# Altium footprint library Carte Sensor.PcbLib: 2 footprints
Each footprint in its own frame and in the unit in brackets; x right, y up, seen from the top. Pads: shape width x height; smd on the part's side, far side on the other; paste and mask are expansions set on the pad; w line width, h text height; cw(c..) or ccw(c..) is an arc to the next point about the centre after c.
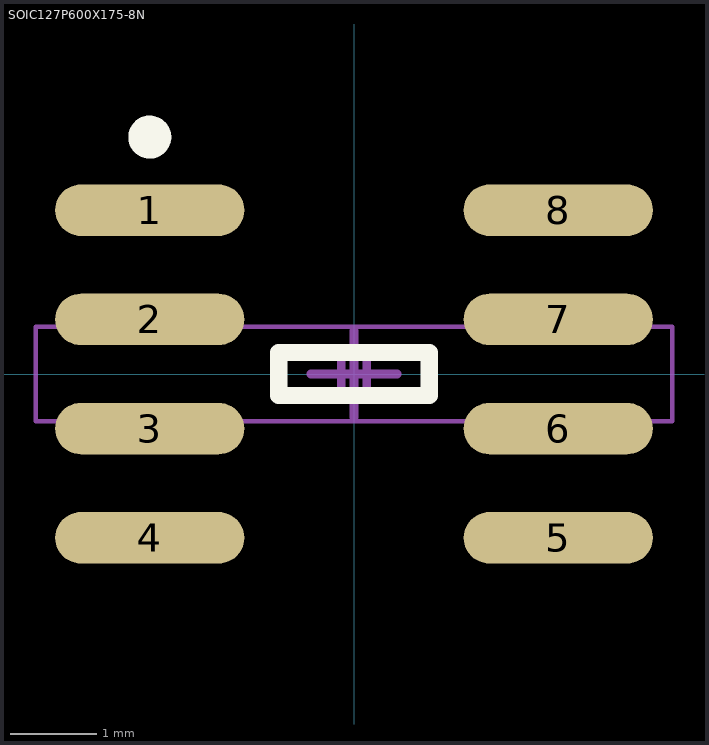
[diagram p0: the footprints below, top view; thin cyan lines are the x and y axes]

## LCD [mm]

## SOIC127P600X175-8N [mm] "SOIC, 8-Leads, Body 0,42x0,18mm, Pitch 1,27mm, IPC Medium Density"
height 1.75
pads (8):
  oval 2.2x0.6 smd: 1(-2.375,1.905) 2(-2.375,0.635) 3(-2.375,-0.635) 4(-2.375,-1.905) 5(2.375,-1.905) 6(2.375,-0.635) 7(2.375,0.635) 8(2.375,1.905)
Top Overlay:
  circle w0.25: c-2.375,2.755 r0.125
  lines w0.2: -0.875,-0.25 -0.875,0.25 0.875,0.25 0.875,-0.25 -0.875,-0.25
Mechanical 13:
  lines w0.1: -0.15,-0.25 -0.15,0.25 0.15,0.25 0.15,-0.25 -0.15,-0.25
Mechanical 15:
  lines w0.05: -3.7,-0.55 -3.7,0.55 3.7,0.55 3.7,-0.55 -3.7,-0.55
  lines w0.1: -0.5,0 0.5,0 ; 0,-0.5 0,0.5
3D body: height 1.75, standoff 0.1, extent -0.15,-0.25 0.15,0.25